# Altium footprint library Mini Multi Function Device.PcbLib: 23 footprints (part 1 of 2)
Each footprint in its own frame and in the unit in brackets; x right, y up, seen from the top. Pads: shape width x height; smd on the part's side, far side on the other; paste and mask are expansions set on the pad; w line width, h text height; cw(c..) or ccw(c..) is an arc to the next point about the centre after c.
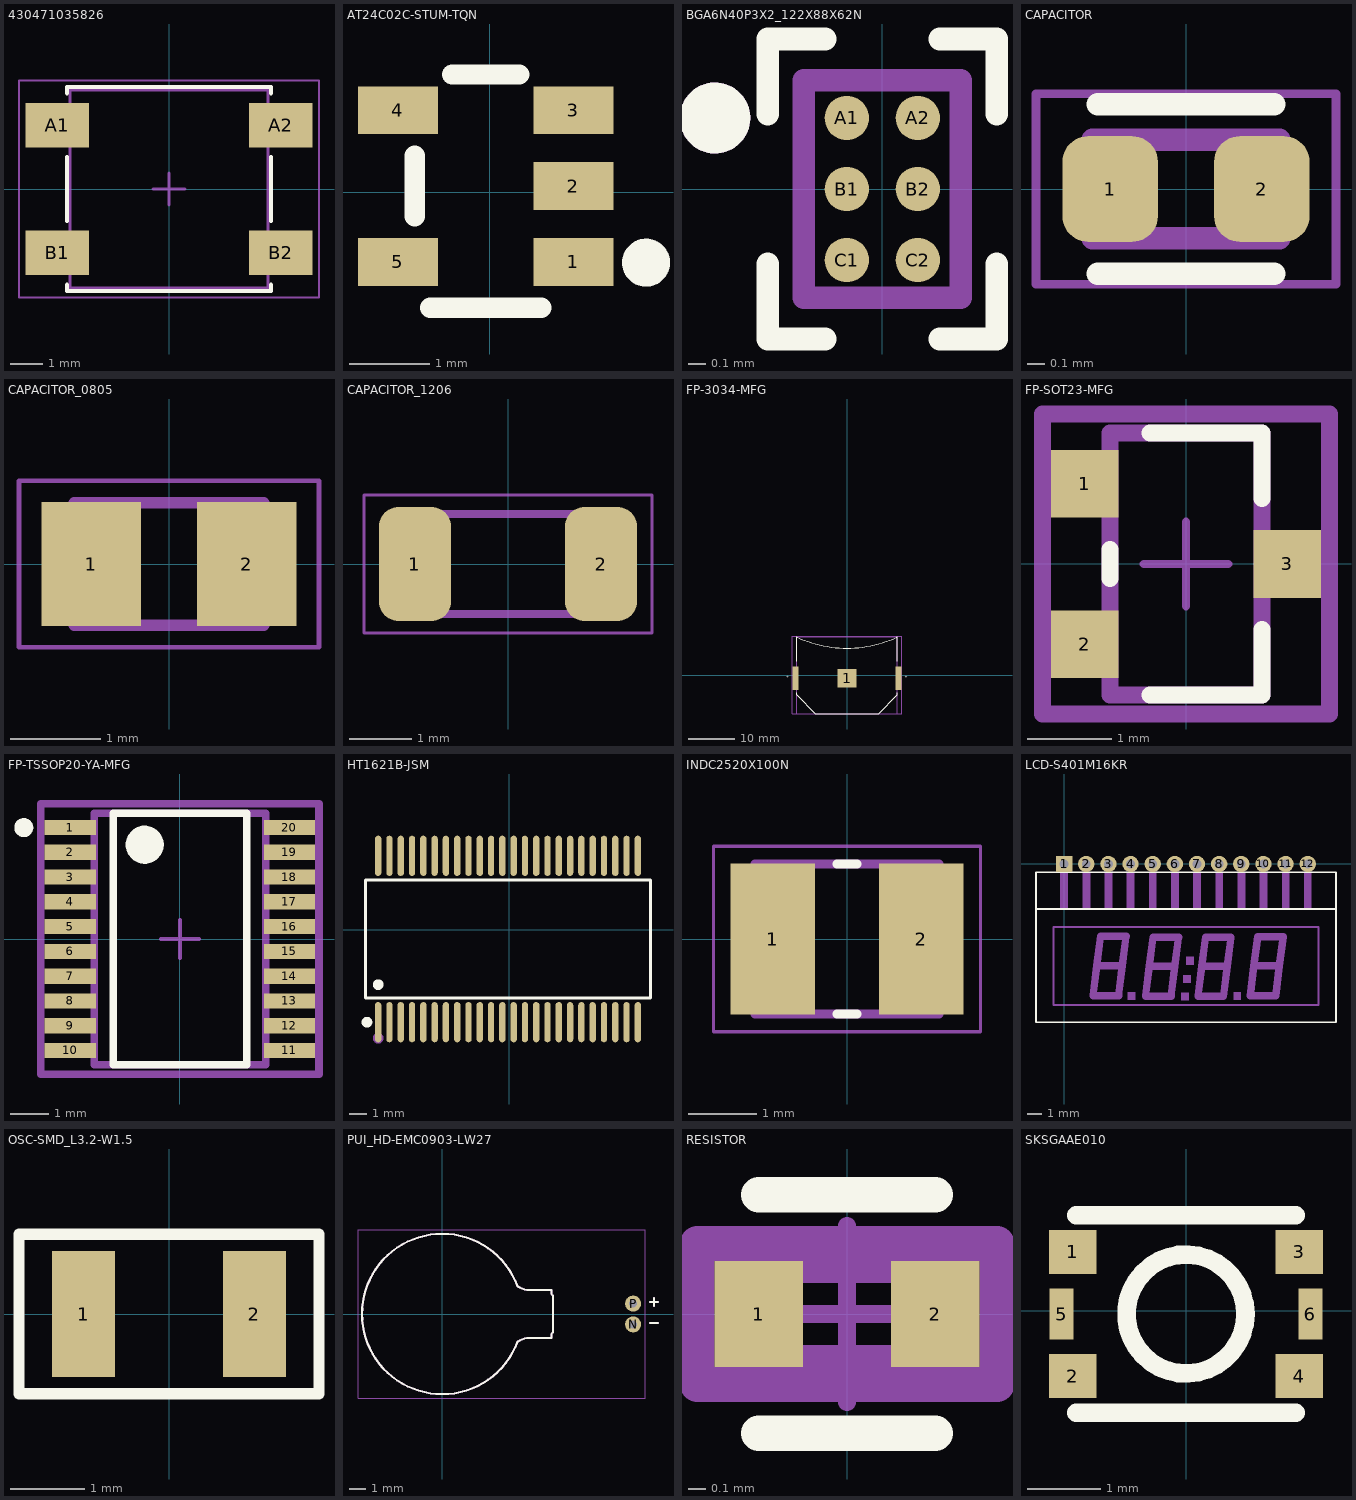
[diagram p0: the footprints below, top view; thin cyan lines are the x and y axes]

## 430471035826 [mm] "SMD Tact Switch, body 6x6mm"
height 3.5
pads (4):
  rect 2x1.4 smd: A1(-3.5,2) A2(3.5,2) B1(-3.5,-2) B2(3.5,-2)
Top Overlay:
  lines w0.127: -3.2,-3 -3.2,-3.2 3.2,-3.2 3.2,-3 ; -3.2,-1 -3.2,1 ; -3.2,3 -3.2,3.2 3.2,3.2 3.2,3 ; 3.2,-1 3.2,1
Top Courtyard:
  lines w0.05: -4.7,-3.4 4.7,-3.4 4.7,3.4 -4.7,3.4 -4.7,-3.4
Top Assembly:
  lines w0.1: -3.1,-2.35 -4,-2.35 -4,-1.65 -3.1,-1.65 ; -3.1,1.65 -4,1.65 -4,2.35 -3.1,2.35 ; 3.1,-2.35 4,-2.35 4,-1.65 3.1,-1.65 ; 3.1,1.65 4,1.65 4,2.35 3.1,2.35 ; -3.1,-3.1 3.1,-3.1 3.1,3.1 -3.1,3.1 -3.1,-3.1
Top Component Center:
  lines w0.1: -0.5,0 0.5,0 ; 0,-0.5 0,0.5
3D body "430481035816.stp": height 3.5, standoff 0, extent -4,-3.1 4,3.1

## AT24C02C-STUM-TQN [mm]
pads (5):
  rect 1x0.6 smd paste+0 mask+0.05: 1(1.049,-0.874) 2(1.049,0.076) 3(1.049,1.026) 4(-1.151,1.026) 5(-1.151,-0.874)
Top Overlay:
  circle w0.3: c1.959,-0.884 r0.15
  lines w0.254: -0.94,-0.305 -0.94,0.457 ; -0.749,-1.448 0.648,-1.448 ; -0.473,1.473 0.371,1.473
3D body "5TS1_MCH.step": height 1, standoff 0, extent -1.391,-1.359 1.409,1.541

## BGA6N40P3X2_122X88X62N [mm]
height 0.625
pads (6):
  round 0.25 smd: A1(-0.2,0.4) A2(0.2,0.4) B1(-0.2,0) B2(0.2,0) C1(-0.2,-0.4) C2(0.2,-0.4)
Top Overlay:
  circle w0.2: c-0.943,0.4 r0.1
  lines w0.127: -0.645,-0.423 -0.645,-0.845 -0.323,-0.845 ; -0.645,0.423 -0.645,0.845 -0.323,0.845 ; 0.323,-0.845 0.645,-0.845 0.645,-0.423 ; 0.323,0.845 0.645,0.845 0.645,0.423
Mechanical 13:
  circle w0.2: c-0.943,0.4 r0.1
  lines w0.127: -0.442,-0.613 -0.442,0.613 0.442,0.613 0.442,-0.613 -0.442,-0.613
3D body "step_temp.STEP": height 0.63, standoff 0, extent -0.427,-0.627 0.427,0.627

## CAPACITOR [mm]
pads (2):
  rrect53% 0.54x0.6 smd paste+0 mask+0.102: 1(-0.43,0) 2(0.43,0)
Top Overlay:
  lines w0.127: -0.5,-0.48 0.5,-0.48 ; -0.5,0.48 0.5,0.48
Mechanical 13:
  lines w0.127: -0.53,-0.28 -0.53,0.28 0.53,0.28 0.53,-0.28 -0.53,-0.28
Mechanical 15:
  lines w0.05: -0.85,-0.54 -0.85,0.54 0.85,0.54 0.85,-0.54 -0.85,-0.54
3D body "step_temp.STEP": height 0.55, standoff 0, extent -0.5,-0.25 0.5,0.25

## CAPACITOR_0805 [mm]
pads (2):
  rect 1.1x1.38 smd: 1(-0.863,0) 2(0.863,0)
Mechanical 13:
  lines w0.127: -1.05,-0.68 1.05,-0.68 1.05,0.68 -1.05,0.68 -1.05,-0.68
Mechanical 15:
  lines w0.05: -1.665,-0.925 1.665,-0.925 1.665,0.925 -1.665,0.925 -1.665,-0.925
3D body "step_temp.STEP": height 1.35, standoff 0, extent -1,-0.625 1,0.625

## CAPACITOR_1206 [mm]
pads (2):
  rrect54% 1.15x1.82 smd: 1(-1.485,0) 2(1.485,0)
Mechanical 13:
  lines w0.127: -1.6,-0.8 1.6,-0.8 1.6,0.8 -1.6,0.8 -1.6,-0.8
Mechanical 15:
  lines w0.05: -2.3,-1.1 2.3,-1.1 2.3,1.1 -2.3,1.1 -2.3,-1.1
3D body "step_temp.STEP": height 1.8, standoff 0, extent -1.6,-0.8 1.6,0.8

## FP-3034-MFG [mm]
pads (3):
  rect 3.96x3.96 smd paste-1000 mask+0: 1(0,-0.67)
  rect 1.27x5.08 smd paste+0 mask+0: 2(-10.985,-0.67) 2(10.985,-0.67)
Top Overlay:
  lines w0.2: -10.73,-3.725 -10.73,-4.225 -6.77,-8.185 ; -10.73,3 -10.73,8.185 ccw(c0,30.765) 10.73,8.185 10.73,3 ; -6.645,-8.185 6.645,-8.185 ; 6.77,-8.185 10.73,-4.225 10.73,-3.725
  text "+" at -12.925,-0.875 h1
  text "+" at 12.35,-0.875 h1
Top 3D Body:
  lines w0.2: -10.73,-8.185 -10.73,8.185 10.73,8.185 10.73,-8.185 -10.73,-8.185
Top Courtyard:
  lines w0.2: -11.72,-8.285 -11.72,8.285 11.72,8.285 11.72,-8.285 -11.72,-8.285
Top Assembly:
  lines w0.2: -11.72,-8.285 -11.72,8.285 11.72,8.285 11.72,-8.285 -11.72,-8.285
  text ".Designator" at 0,0.188 h1
Top Component Center:
  lines w0.1: -0.5,0 0.5,0 ; 0,-0.5 0,0.5
3D body "Batt_Keystone_Electronics_3034_eec.STEP": height 0.25, standoff 0, extent -11.72,-8.285 11.72,8.285

## FP-SOT23-MFG [mm]
pads (3):
  rect 0.8x0.8 smd paste+0 mask+0: 1(-1.2,0.95) 2(-1.2,-0.95) 3(1.2,0)
Top Overlay:
  lines w0.2: -0.9,-0.175 -0.9,0.175 ; -0.425,-1.55 0.9,-1.55 0.9,-0.775 ; -0.425,1.55 0.9,1.55 0.9,0.775
Top 3D Body:
  lines w0.2: -0.9,-1.55 0.9,-1.55 0.9,1.55 -0.9,1.55 -0.9,-1.55
Top Courtyard:
  lines w0.2: -1.7,-1.777 1.7,-1.777 1.7,1.777 -1.7,1.777 -1.7,-1.777
Top Assembly:
  lines w0.2: -1.7,-1.777 1.7,-1.777 1.7,1.777 -1.7,1.777 -1.7,-1.777
Top Component Center:
  lines w0.1: -0.5,0 0.5,0 ; 0,-0.5 0,0.5
3D body "Trans_Alpha_&_Omega_Semiconductor_AO3400A_eec.STEP": height 0.25, standoff 0, extent -1.7,-1.777 1.7,1.777

## FP-TSSOP20-YA-MFG [mm]
pads (20):
  rect 1.35x0.4 smd paste+0 mask+0: 1(-2.875,2.925) 2(-2.875,2.275) 3(-2.875,1.625) 4(-2.875,0.975) 5(-2.875,0.325) 6(-2.875,-0.325) 7(-2.875,-0.975) 8(-2.875,-1.625) 9(-2.875,-2.275) 10(-2.875,-2.925) 11(2.875,-2.925) 12(2.875,-2.275) 13(2.875,-1.625) 14(2.875,-0.975) 15(2.875,-0.325) 16(2.875,0.325) 17(2.875,0.975) 18(2.875,1.625) 19(2.875,2.275) 20(2.875,2.925)
Top Overlay:
  circle w0.5: c-0.925,2.475 r0.25
  circle w0.25: c-4.1,2.925 r0.125
  lines w0.2: -1.75,-3.3 -1.75,3.3 1.75,3.3 1.75,-3.3 -1.75,-3.3
Top 3D Body:
  lines w0.2: -2.25,-3.3 -2.25,3.3 2.25,3.3 2.25,-3.3 -2.25,-3.3
Top Courtyard:
  lines w0.2: -3.65,-3.55 -3.65,3.55 3.65,3.55 3.65,-3.55 -3.65,-3.55
Top Assembly:
  lines w0.2: -3.65,-3.55 -3.65,3.55 3.65,3.55 3.65,-3.55 -3.65,-3.55
  text ".Designator" at 0,0.188 h1
Top Component Center:
  lines w0.1: -0.5,0 0.5,0 ; 0,-0.5 0,0.5
3D body "IC_STMicroelectronics_STM32G030F6P6_eec.STEP": height 0.25, standoff 0, extent -3.65,-3.55 3.65,3.55

## HT1621B-JSM [mil] "-40℃~+85℃ 0.1uA 1/3,1/2 1/4,1/3,1/2 2.4V~5.2V 256kHz 3-Wire Serial Interface 32 Segment 32x4 bit 60uA LQFP-44(10x10) LCD Drivers ROHS"
pads (48):
  oval 14x89.24 smd paste+0 mask+2: 1(-290.75,-205.09) 2(-265.75,-205.09) 3(-240.75,-205.09) 4(-215.75,-205.09) 5(-190.75,-205.09) 6(-165.75,-205.09) 7(-140.75,-205.09) 8(-115.75,-205.09) 9(-90.75,-205.09) 10(-65.75,-205.09) 11(-40.75,-205.09) 12(-15.75,-205.09) 13(9.25,-205.09) 14(34.25,-205.09) 15(59.25,-205.09) 16(84.25,-205.09) 17(109.25,-205.09) 18(134.25,-205.09) 19(159.25,-205.09) 20(184.25,-205.09) 21(209.25,-205.09) 22(234.25,-205.09) 23(259.25,-205.09) 24(284.25,-205.09) 25(284.25,163.29) 26(259.25,163.29) 27(234.25,163.29) 28(209.25,163.29) 29(184.25,163.29) 30(159.25,163.29) 31(134.25,163.29) 32(109.25,163.29) 33(84.25,163.29) 34(59.25,163.29) 35(34.25,163.29) 36(9.25,163.29) 37(-15.75,163.29) 38(-40.75,163.29) 39(-65.75,163.29) 40(-90.75,163.29) 41(-115.75,163.29) 42(-140.75,163.29) 43(-165.75,163.29) 44(-190.75,163.29) 45(-215.75,163.29) 46(-240.75,163.29) 47(-265.75,163.29) 48(-290.75,163.29)
Top Overlay:
  circle w11.81: c-315.56,-205.09 r5.91
  circle w11.81: c-290.75,-121.85 r5.91
  lines w6: -318.75,-151.47 312.25,-151.47 312.25,109.67 -318.75,109.67 -318.75,-151.47
Mechanical 15:
  circle w11.81: c-290.75,-240.39 r5.91
3D body: height 39.37, standoff 0, extent -318.67,-152.57 310.03,110.75

## INDC2520X100N [mm]
pads (2):
  rect 1.24x2.22 smd: 1(-1.09,0) 2(1.09,0)
Top Overlay:
  lines w0.127: -0.15,-1.1 0.15,-1.1 ; -0.15,1.1 0.15,1.1
Mechanical 13:
  lines w0.127: -1.35,-1.1 1.35,-1.1 1.35,1.1 -1.35,1.1 -1.35,-1.1
Mechanical 15:
  lines w0.05: -1.958,-1.358 1.958,-1.358 1.958,1.358 -1.958,1.358 -1.958,-1.358
3D body "step_temp.STEP": height 1, standoff 0, extent -1.25,-1 1.25,1

## LCD-S401M16KR [mm]
pads (12):
  rect 1.108x1.108 / inner round 1.108 / far side rect 1.108x1.108 hole 0.6: 1(0,0)
  round 1.108 hole 0.6: 2(1.5,0) 3(3,0) 4(4.5,0) 5(6,0) 6(7.5,0) 7(9,0) 8(10.5,0) 9(12,0) 10(13.5,0) 11(15,0) 12(16.5,0)
Top Overlay:
  lines w0.127: -1.905,-3.048 -1.905,-10.719 18.415,-10.719 18.415,-3.048 ; -1.905,-3.048 -1.905,-0.559 18.415,-0.559 18.415,-3.048 ; -1.905,-3.048 18.415,-3.048
Mechanical 13:
  region: 0.25,-0.501 -0.25,-0.501 -0.25,0 0.25,0
  region: 1.75,-0.5 1.251,-0.5 1.251,0 1.75,0
  region: 3.25,-0.5 2.751,-0.5 2.751,0 3.25,0
  region: 4.75,-0.501 4.255,-0.501 4.255,0 4.75,0
  region: 6.25,-0.501 5.761,-0.501 5.761,0 6.25,0
  region: 7.75,-0.5 7.254,-0.5 7.254,0 7.75,0
  region: 9.25,-0.5 8.757,-0.5 8.757,0 9.25,0
  region: 10.75,-0.501 10.269,-0.501 10.269,0 10.75,0
  region: 12.25,-0.501 11.769,-0.501 11.769,0 12.25,0
  region: 13.75,-0.5 13.257,-0.5 13.257,0 13.75,0
  region: 15.25,-0.5 14.761,-0.5 14.761,0 15.25,0
  region: 16.75,-0.5 16.263,-0.5 16.263,0 16.75,0
  region: 0.254,-3.051 -0.254,-3.051 -0.254,-0.559 0.254,-0.559
  region: 1.754,-3.049 1.246,-3.049 1.246,-0.559 1.754,-0.559
  region: 3.254,-3.049 2.747,-3.049 2.747,-0.559 3.254,-0.559
  region: 4.754,-3.048 4.246,-3.048 4.246,-0.559 4.754,-0.559
  region: 6.254,-3.053 5.756,-3.053 5.756,-0.559 6.254,-0.559
  region: 7.754,-3.049 7.248,-3.049 7.248,-0.559 7.754,-0.559
  region: 9.254,-3.049 8.748,-3.049 8.748,-0.559 9.254,-0.559
  region: 10.754,-3.05 10.254,-3.05 10.254,-0.559 10.754,-0.559
  region: 12.254,-3.053 11.764,-3.053 11.764,-0.559 12.254,-0.559
  region: 13.754,-3.051 13.259,-3.051 13.259,-0.559 13.754,-0.559
  region: 15.254,-3.053 14.77,-3.053 14.77,-0.559 15.254,-0.559
  region: 16.754,-3.052 16.268,-3.052 16.268,-0.559 16.754,-0.559
  region: 4.826,-9.202 4.321,-9.202 4.321,-8.687 4.826,-8.687
  region: 11.963,-9.212 11.476,-9.212 11.476,-8.687 11.963,-8.687
  region: 8.433,-9.222 7.926,-9.222 7.926,-8.712 8.433,-8.712
  region: 8.763,-6.816 8.266,-6.816 8.266,-6.299 8.763,-6.299
  region: 8.585,-8.057 8.083,-8.057 8.083,-7.544 8.585,-7.544
  lines w0.127: -0.711,-9.55 -0.711,-4.267 17.221,-4.267 17.221,-9.55 -0.711,-9.55
  lines w0.508: 2.21,-6.883 1.956,-8.915 3.683,-8.915 3.937,-6.883 ; 2.21,-6.883 2.464,-4.902 4.191,-4.902 3.937,-6.883 ; 2.21,-6.883 3.937,-6.883 ; 5.766,-6.934 5.512,-8.966 7.239,-8.966 7.493,-6.934 ; 5.766,-6.934 6.02,-4.953 7.747,-4.953 7.493,-6.934 ; 5.766,-6.934 7.493,-6.934 ; 9.322,-6.934 9.068,-8.966 10.795,-8.966 11.049,-6.934 ; 9.322,-6.934 9.576,-4.953 11.303,-4.953 11.049,-6.934 ; 9.322,-6.934 11.049,-6.934 ; 12.852,-6.909 12.598,-8.941 14.326,-8.941 14.58,-6.909 ; 12.852,-6.909 13.106,-4.928 14.834,-4.928 14.58,-6.909 ; 12.852,-6.909 14.58,-6.909
3D body "step_temp.STEP": height 2.9, standoff -12.3, extent -2.91,-10.485 18.41,0.175

## OSC-SMD_L3.2-W1.5 [mm]
pads (2):
  rect 0.85x1.7 smd paste+0 mask+0.051: 1(-1.155,0) 2(1.155,0)
Top Overlay:
  lines w0.152: -2.029,-1.079 2.029,-1.079 2.029,1.079 -2.029,1.079 -2.029,-1.079
3D body: height 0.76, standoff 0, extent -1.791,-0.978 1.791,0.978

## PUI_HD-EMC0903-LW27 [mm]
height 3.2
pads (2):
  round 1.008 hole 0.5: N(11.9,-0.65) P(11.9,0.65)
Top Overlay:
  lines w0.127: 4.681,1.752 ccw(c5.466,2.793) 5.307,1.499 ; 4.687,-1.747 cw(c5.455,-2.765) 5.299,-1.5 6.8,-1.5 6.8,-1.25 6.9,-1.15 6.9,1.15 6.8,1.25 6.8,1.5 5.3,1.5 ; 4.698,-1.71 cw(c0,0) 0,-5 cw(c0,0) -5,0 cw(c0,0) 0,5 cw(c0,0) 4.698,1.71 ; 12.95,-0.55 13.45,-0.55 ; 12.95,0.75 13.45,0.75 ; 13.2,0.5 13.2,1
Mechanical 13:
  lines w0.127: 4.681,1.752 ccw(c5.466,2.793) 5.307,1.499 ; 4.687,-1.747 cw(c5.455,-2.765) 5.299,-1.5 6.8,-1.5 6.8,-1.25 6.9,-1.15 6.9,1.15 6.8,1.25 6.8,1.5 5.3,1.5 ; 4.698,-1.71 cw(c0,0) 0,-5 cw(c0,0) -5,0 cw(c0,0) 0,5 cw(c0,0) 4.698,1.71 ; 12.95,-0.55 13.45,-0.55 ; 12.95,0.75 13.45,0.75 ; 13.2,0.5 13.2,1
Mechanical 15:
  lines w0.05: -5.25,-5.25 -5.25,5.25 12.654,5.25 12.654,-5.25 -5.25,-5.25
3D body "step_temp.STEP": height 3.2, standoff 0, extent -4.979,-5 33.8,5

## RESISTOR [mm]
pads (2):
  rect 0.5x0.6 smd paste+0 mask+0: 1(-0.5,0) 2(0.5,0)
Top Overlay:
  lines w0.2: -0.5,-0.675 0.5,-0.675 ; -0.5,0.675 0.5,0.675
Top 3D Body:
  lines w0.2: -0.525,-0.275 -0.525,0.275 0.525,0.275 0.525,-0.275 -0.525,-0.275
Top Courtyard:
  lines w0.2: -0.85,-0.4 -0.85,0.4 0.85,0.4 0.85,-0.4 -0.85,-0.4
Top Assembly:
  lines w0.2: -0.85,-0.4 -0.85,0.4 0.85,0.4 0.85,-0.4 -0.85,-0.4
Top Component Center:
  lines w0.1: -0.5,0 0.5,0 ; 0,-0.5 0,0.5
3D body "Res_Yageo_AC0402FR-0716R2L_eec.STEP": height 0.25, standoff 0, extent -0.85,-0.4 0.85,0.4

## SKSGAAE010 [mm]
pads (6):
  rect 0.65x0.6 smd paste+0 mask+0.051: 1(-1.555,0.803) 2(-1.555,-0.897) 3(1.545,0.803) 4(1.545,-0.897)
  rect 0.325x0.7 smd paste+0 mask+0.051: 5(-1.705,-0.047) 6(1.695,-0.047)
Top Overlay:
  circle w0.254: c-0.005,-0.047 r0.813
  lines w0.254: -1.505,-1.397 1.495,-1.397 ; -1.505,1.303 1.495,1.303
3D body "SKSGAAE010--3DModel-STEP-56544.STEP": height 1.4, standoff 0, extent -1.785,-1.35 1.735,1.35